# Altium footprint library Mypcb.PcbLib: 144 footprints (part 2 of 9)
Each footprint in its own frame and in the unit in brackets; x right, y up, seen from the top. Pads: shape width x height; smd on the part's side, far side on the other; paste and mask are expansions set on the pad; w line width, h text height; cw(c..) or ccw(c..) is an arc to the next point about the centre after c.
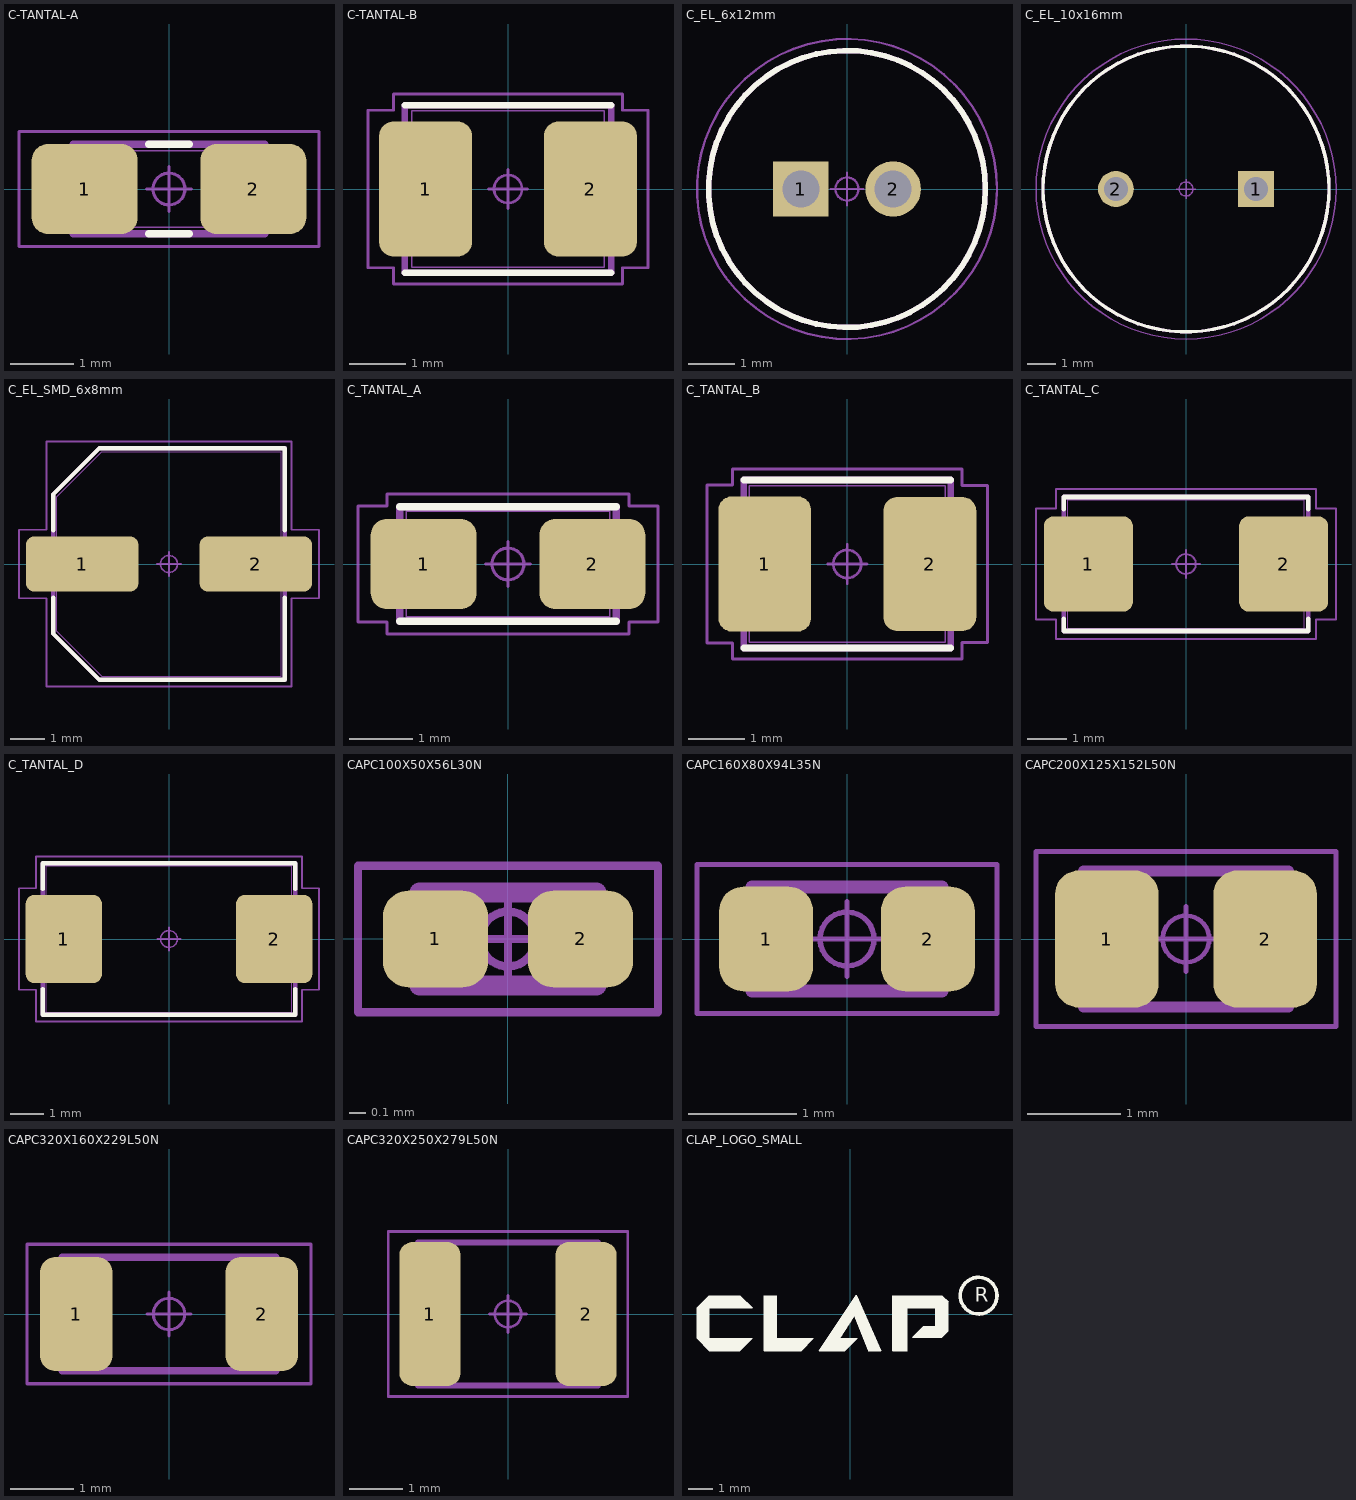
[diagram p1: the footprints below, top view; thin cyan lines are the x and y axes]

## C-TANTAL-A [mm] "Capacitor, Polarized, Molded Body; 3.20 mm L X 1.20 mm W X 1.80 mm H body"
height 1.8
pads (2):
  rrect35% 1.66x1.41 smd: 1(-1.325,0) 2(1.325,0)
Top Overlay:
  lines w0.12: -0.315,-0.7 0.315,-0.7 ; -0.315,0.7 0.315,0.7
Mechanical 11:
  lines w0.12: -1.5,-0.7 -1.5,0.7 1.5,0.7 1.5,-0.7 -1.5,-0.7
Mechanical 12:
  lines w0.025: -1.6,-0.55 -0.75,-0.55 -0.75,0.55 -1.6,0.55 -1.6,-0.55 ; -1.4,-0.6 -1.4,0.6 1.4,0.6 1.4,-0.6 -1.4,-0.6 ; 0.75,-0.55 0.75,0.55 1.6,0.55 1.6,-0.55 0.75,-0.55
Mechanical 15:
  circle w0.05: c0,0 r0.25
  lines w0.05: -0.35,0 0.35,0 ; 0,-0.35 0,0.35 ; -2.355,-0.905 2.355,-0.905 2.355,0.905 -2.355,0.905 -2.355,-0.905
3D body "CAPPM320X120X180L85X110.STEP": height 1.8, standoff 0, extent -1.6,-0.6 1.6,0.6

## C-TANTAL-B [mm] "Capacitor, Polarized, Molded Body; 3.45 mm L X 2.80 mm W X 2.10 mm H body"
height 2.1
pads (2):
  rrect30% 1.66x2.42 smd: 1(-1.475,0) 2(1.475,0)
Top Overlay:
  lines w0.12: -1.85,-1.5 1.85,-1.5 ; -1.85,1.5 1.85,1.5
Mechanical 11:
  lines w0.12: -1.85,-1.5 1.85,-1.5 1.85,1.5 -1.85,1.5 -1.85,-1.5
Mechanical 12:
  lines w0.025: -1.75,-1.1 -1.75,1.1 -0.9,1.1 -0.9,-1.1 -1.75,-1.1 ; -1.725,-1.4 1.725,-1.4 1.725,1.4 -1.725,1.4 -1.725,-1.4 ; 0.9,-1.1 1.75,-1.1 1.75,1.1 0.9,1.1 0.9,-1.1
Mechanical 15:
  circle w0.05: c0,0 r0.25
  lines w0.05: -0.35,0 0.35,0 ; 0,-0.35 0,0.35 ; -2.505,-1.41 -2.05,-1.41 -2.05,-1.7 2.05,-1.7 2.05,-1.41 2.505,-1.41 2.505,1.41 2.05,1.41 2.05,1.7 -2.05,1.7 -2.05,1.41 -2.505,1.41 -2.505,-1.41
3D body "CAPPM350X280X210L85X220.STEP": height 2.1, standoff 0, extent -1.75,-1.4 1.75,1.4

## C_EL_6x12mm [mm] "Capacitor, Polarized, Radial (Electrolytic); 2.00 mm C X 6.00 mm Dia X 12.50 mm H body"
height 12.5
pads (2):
  rect 1.2x1.2 hole 0.8 paste-1.2: 1(-1,0)
  round 1.2 hole 0.8 paste-1.2: 2(1,0)
Top Overlay:
  circle w0.12: c0,0 r3
Mechanical 11:
  circle w0.12: c0,0 r3
Mechanical 12:
  circle w0.025: c-1,0 r0.3
  circle w0.025: c1,0 r0.3
  circle w0.025: c0,0 r3
Mechanical 15:
  circle w0.05: c0,0 r3.25
  circle w0.05: c0,0 r0.25
  lines w0.05: -0.35,0 0.35,0 ; 0,-0.35 0,0.35
3D body "CAPPRD200W50D600H1250.STEP": height 12.51, standoff -2, extent -3,-3 3.01,3

## C_EL_10x16mm [mm] "Capacitor, Polarized, Radial (Electrolytic); 5.00 mm C X 10.20 mm Dia X 16.00 mm H body"
height 16
pads (2):
  rect 1.28x1.28 hole 0.85 paste-1.28: 1(2.5,0)
  round 1.28 hole 0.85 paste-1.28: 2(-2.5,0)
Top Overlay:
  circle w0.12: c0,0 r5.1
Mechanical 11:
  circle w0.12: c0,0 r5.1
Mechanical 12:
  circle w0.025: c0,0 r5.1
  circle w0.025: c2.5,0 r0.325
  circle w0.025: c-2.5,0 r0.325
Mechanical 15:
  circle w0.05: c0,0 r0.25
  circle w0.05: c0,0 r5.35
  lines w0.05: -0.35,0 0.35,0 ; 0,-0.35 0,0.35
3D body "CAPPRD500W60D1020H1600.STEP": height 16.01, standoff -2, extent -5.1,-5.1 5.11,5.1

## C_EL_SMD_6x8mm [mm] "Capacitor, Aluminum Electrolytic; 6.60 mm L X 6.60 mm W X 8.00 mm H body"
height 8
pads (2):
  rrect31% 3.31x1.62 smd: 1(-2.55,0) 2(2.55,0)
Top Overlay:
  lines w0.12: -3.4,-0.99 -3.4,-2.04 -2.04,-3.4 3.4,-3.4 3.4,-0.99 ; -3.4,0.99 -3.4,2.04 -2.04,3.4 3.4,3.4 3.4,0.99
Mechanical 11:
  lines w0.12: -3.4,-2.04 -2.04,-3.4 3.4,-3.4 3.4,3.4 -2.04,3.4 -3.4,2.04 -3.4,-2.04
Mechanical 12:
  lines w0.025: -3.55,-0.325 -0.95,-0.325 -0.95,0.325 -3.55,0.325 -3.55,-0.325 ; -3.3,-1.98 -1.98,-3.3 3.3,-3.3 3.3,3.3 -1.98,3.3 -3.3,1.98 -3.3,-1.98 ; 0.95,-0.325 0.95,0.325 3.55,0.325 3.55,-0.325 0.95,-0.325
Mechanical 15:
  circle w0.05: c0,0 r0.25
  lines w0.05: -0.35,0 0.35,0 ; 0,-0.35 0,0.35 ; -4.405,-1.01 -4.405,1.01 -3.6,1.01 -3.6,3.6 3.6,3.6 3.6,1.01 4.405,1.01 4.405,-1.01 3.6,-1.01 3.6,-3.6 -3.6,-3.6 -3.6,-1.01 -4.405,-1.01
Mechanical 16:
  text ".Designator" at 0,0 h1.2
3D body "CAPAE660X800D710L260X65.STEP": height 8, standoff 0, extent -3.6,-3.3 3.6,3.3

## C_TANTAL_A [mm] "Capacitor, Polarized, Molded Body; 3.20 mm L X 1.65 mm W X 1.80 mm H body"
height 1.8
pads (2):
  rrect35% 1.66x1.42 smd: 1(-1.325,0) 2(1.325,0)
Top Overlay:
  lines w0.12: -1.7,-0.9 1.7,-0.9 ; -1.7,0.9 1.7,0.9
Mechanical 11:
  lines w0.12: -1.7,-0.9 1.7,-0.9 1.7,0.9 -1.7,0.9 -1.7,-0.9
Mechanical 12:
  lines w0.025: -1.6,-0.825 1.6,-0.825 1.6,0.825 -1.6,0.825 -1.6,-0.825 ; -1.6,-0.6 -1.6,0.6 -0.75,0.6 -0.75,-0.6 -1.6,-0.6 ; 0.75,-0.6 1.6,-0.6 1.6,0.6 0.75,0.6 0.75,-0.6
Mechanical 15:
  circle w0.05: c0,0 r0.25
  lines w0.05: -0.35,0 0.35,0 ; 0,-0.35 0,0.35 ; -2.355,-0.91 -1.9,-0.91 -1.9,-1.1 1.9,-1.1 1.9,-0.91 2.355,-0.91 2.355,0.91 1.9,0.91 1.9,1.1 -1.9,1.1 -1.9,0.91 -2.355,0.91 -2.355,-0.91
Mechanical 16:
  text ".Designator" at 0,0 h1.2
3D body "CAPPM320X165X180L85X120.STEP": height 1.8, standoff 0, extent -1.6,-0.825 1.6,0.825

## C_TANTAL_B [mm] "Capacitor, Polarized, Molded Body; 3.50 mm L X 2.80 mm W X 2.10 mm H body"
height 2.1
pads (2):
  rrect30% 1.66x2.42 smd: 1(-1.475,0)
  rrect30% 1.66x2.4 smd: 2(1.475,0)
Top Overlay:
  lines w0.12: -1.85,-1.5 1.85,-1.5 ; -1.85,1.5 1.85,1.5
Mechanical 11:
  lines w0.12: -1.85,-1.5 -1.85,1.5 1.85,1.5 1.85,-1.5 -1.85,-1.5
Mechanical 12:
  lines w0.025: -1.75,-1.4 -1.75,1.4 1.75,1.4 1.75,-1.4 -1.75,-1.4 ; -1.75,-1.1 -0.9,-1.1 -0.9,1.1 -1.75,1.1 -1.75,-1.1 ; 0.9,-0.85 0.9,0.85 1.75,0.85 1.75,-0.85 0.9,-0.85
Mechanical 15:
  circle w0.05: c0,0 r0.25
  lines w0.05: -0.35,0 0.35,0 ; 0,-0.35 0,0.35 ; -2.505,-1.41 -2.505,1.41 -2.05,1.41 -2.05,1.7 2.05,1.7 2.05,1.4 2.505,1.4 2.505,-1.4 2.05,-1.4 2.05,-1.7 -2.05,-1.7 -2.05,-1.41 -2.505,-1.41
Mechanical 16:
  text ".Designator" at 0,0 h1.2
3D body "C_TANTAL_B.STEP": height 2.1, standoff 0, extent -1.75,-1.4 1.75,1.4

## C_TANTAL_C [mm] "Capacitor, Polarized, Molded Body; 6.00 mm L X 3.25 mm W X 2.80 mm H body"
height 2.8
pads (2):
  rrect22% 2.26x2.42 smd: 1(-2.475,0) 2(2.475,0)
Top Overlay:
  lines w0.12: -3.1,-1.39 -3.1,-1.7 3.1,-1.7 3.1,-1.39 ; -3.1,1.39 -3.1,1.7 3.1,1.7 3.1,1.39
Mechanical 11:
  lines w0.12: -3.1,-1.7 3.1,-1.7 3.1,1.7 -3.1,1.7 -3.1,-1.7
Mechanical 12:
  lines w0.025: -3,-1.625 3,-1.625 3,1.625 -3,1.625 -3,-1.625 ; -3,-1.1 -3,1.1 -1.65,1.1 -1.65,-1.1 -3,-1.1 ; 1.65,-1.1 3,-1.1 3,1.1 1.65,1.1 1.65,-1.1
Mechanical 15:
  circle w0.05: c0,0 r0.25
  lines w0.05: -0.35,0 0.35,0 ; 0,-0.35 0,0.35 ; -3.805,-1.41 -3.3,-1.41 -3.3,-1.9 3.3,-1.9 3.3,-1.41 3.805,-1.41 3.805,1.41 3.3,1.41 3.3,1.9 -3.3,1.9 -3.3,1.41 -3.805,1.41 -3.805,-1.41
Mechanical 16:
  text ".Designator" at 0,0 h1.2
3D body "C_TANTAL_C.STEP": height 2.8, standoff 0, extent -3,-1.625 3,1.625

## C_TANTAL_D [mm] "Capacitor, Polarized, Molded Body; 7.30 mm L X 4.35 mm W X 3.10 mm H body"
height 3.1
pads (2):
  rrect22% 2.26x2.62 smd: 1(-3.125,0) 2(3.125,0)
Top Overlay:
  lines w0.12: -3.75,-1.49 -3.75,-2.25 3.75,-2.25 3.75,-1.49 ; -3.75,1.49 -3.75,2.25 3.75,2.25 3.75,1.49
Mechanical 11:
  lines w0.12: -3.75,-2.25 3.75,-2.25 3.75,2.25 -3.75,2.25 -3.75,-2.25
Mechanical 12:
  lines w0.025: -3.65,-2.175 3.65,-2.175 3.65,2.175 -3.65,2.175 -3.65,-2.175 ; -3.65,-1.2 -3.65,1.2 -2.3,1.2 -2.3,-1.2 -3.65,-1.2 ; 2.3,-1.2 3.65,-1.2 3.65,1.2 2.3,1.2 2.3,-1.2
Mechanical 15:
  circle w0.05: c0,0 r0.25
  lines w0.05: -0.35,0 0.35,0 ; 0,-0.35 0,0.35 ; -4.455,-1.51 -3.95,-1.51 -3.95,-2.45 3.95,-2.45 3.95,-1.51 4.455,-1.51 4.455,1.51 3.95,1.51 3.95,2.45 -3.95,2.45 -3.95,1.51 -4.455,1.51 -4.455,-1.51
Mechanical 16:
  text ".Designator" at 0,0 h1.2
3D body "C_TANTAL_D.STEP": height 3.1, standoff 0, extent -3.65,-2.175 3.65,2.175

## CAPC100X50X56L30N [mm] "Capacitor, Chip; 1.00 mm L X 0.50 mm W X 0.56 mm H body"
height 0.56
pads (2):
  rrect52% 0.63x0.58 smd paste-0.63 mask+0: 1(-0.435,0) 2(0.435,0)
Mechanical 13:
  lines w0.12: -0.53,-0.28 -0.53,0.28 0.53,0.28 0.53,-0.28 -0.53,-0.28
Mechanical 15:
  circle w0.05: c0,0 r0.165
  lines w0.05: -0.22,0 0.22,0 ; 0,-0.22 0,0.22 ; -0.9,-0.44 -0.9,0.44 0.9,0.44 0.9,-0.44 -0.9,-0.44
3D body "CAP-0402.stp": height 0.5, standoff 0, extent -0.5,-0.25 0.5,0.25

## CAPC160X80X94L35N [mm] "Capacitor, Chip; 1.60 mm L X 0.80 mm W X 0.94 mm H body"
height 0.94
pads (2):
  rrect51% 0.87x0.97 smd paste-0.97 mask+0: 1(-0.75,0) 2(0.75,0)
Mechanical 13:
  lines w0.12: -0.88,-0.48 0.88,-0.48 0.88,0.48 -0.88,0.48 -0.88,-0.48
Mechanical 15:
  circle w0.05: c0,0 r0.25
  lines w0.05: -0.345,0 0.345,0 ; 0,-0.345 0,0.345 ; -1.39,-0.69 1.39,-0.69 1.39,0.69 -1.39,0.69 -1.39,-0.69
3D body "CAP-0603.stp": height 0.8, standoff 0, extent -0.8,-0.4 0.8,0.4

## CAPC200X125X152L50N [mm] "Capacitor, Chip; 2.00 mm L X 1.25 mm W X 1.52 mm H body"
height 1.52
pads (2):
  rrect45% 1.11x1.47 smd paste-1.47 mask+0: 1(-0.85,0) 2(0.85,0)
Mechanical 13:
  lines w0.12: -1.1,-0.73 1.1,-0.73 1.1,0.73 -1.1,0.73 -1.1,-0.73
Mechanical 15:
  circle w0.05: c0,0 r0.25
  lines w0.05: -0.35,0 0.35,0 ; 0,-0.35 0,0.35 ; -1.61,-0.94 1.61,-0.94 1.61,0.94 -1.61,0.94 -1.61,-0.94
3D body "CAP-0805.stp": height 1.25, standoff 0, extent -1,-0.625 1,0.625

## CAPC320X160X229L50N [mm] "Capacitor, Chip; 3.20 mm L X 1.60 mm W X 2.29 mm H body"
height 2.29
pads (2):
  rrect43% 1.16x1.82 smd paste-1.82 mask+0: 1(-1.475,0) 2(1.475,0)
Mechanical 13:
  lines w0.12: -1.7,-0.9 -1.7,0.9 1.7,0.9 1.7,-0.9 -1.7,-0.9
Mechanical 15:
  circle w0.05: c0,0 r0.25
  lines w0.05: -0.35,0 0.35,0 ; 0,-0.35 0,0.35 ; -2.26,-1.11 -2.26,1.11 2.26,1.11 2.26,-1.11 -2.26,-1.11
3D body "CAP-1206.stp": height 1.6, standoff 0, extent -1.6,-0.8 1.6,0.8

## CAPC320X250X279L50N [mm] "Capacitor, Chip; 3.20 mm L X 2.50 mm W X 2.79 mm H body"
height 2.79
pads (2):
  rrect43% 1.16x2.72 smd paste-2.72 mask+0: 1(-1.475,0) 2(1.475,0)
Mechanical 13:
  lines w0.12: -1.7,-1.35 -1.7,1.35 1.7,1.35 1.7,-1.35 -1.7,-1.35
Mechanical 15:
  circle w0.05: c0,0 r0.25
  lines w0.05: -0.35,0 0.35,0 ; 0,-0.35 0,0.35 ; -2.26,-1.56 -2.26,1.56 2.26,1.56 2.26,-1.56 -2.26,-1.56
3D body "CAP-1210.stp": height 2.5, standoff 0, extent -1.6,-1.25 1.6,1.25

## CLAP_LOGO_SMALL [mm]
Top Overlay:
  circle w0.15: c5.25,0.75 r0.75
  region: 1.25,-1.5 0.817,-0.525 0.248,0.755 -0.892,-0.95 -1.26,-1.5 -0.216,-1.5 0.284,-1 -0.418,-1 0.172,-0.068 0.765,-1.5
  region: 1.74,-1.5 1.74,0.75 3.75,0.75 4,0.5 4,-0.691 3.75,-0.941 2.559,-0.941 3,-0.5 3.5,-0.5 3.5,0.25 2.325,0.25 2.325,-1.5
  region: -5.75,0.75 -4.5,0.75 -4,0.25 -5.75,0.25 -5.75,-1 -4,-1 -4.5,-1.5 -5.75,-1.5 -6.25,-1 -6.25,0.25
  region: -3.5,0.75 -3,0.75 -3,-1 -1.5,-1 -2,-1.5 -3.5,-1.5
  lines w0.025: 0.177,-0.075 -0.418,-1 0.284,-1 -0.216,-1.5 -1.26,-1.5 0.248,0.755 1.25,-1.5 0.75,-1.5 0.181,-0.078 ; -6.25,-1 -5.75,-1.5 -4.5,-1.5 -4,-1 -5.75,-1 -5.75,0.25 -4,0.25 -4.5,0.75 -5.75,0.75 -6.25,0.25 -6.25,-1 ; -3.5,-1.5 -2,-1.5 -1.5,-1 -3,-1 -3,0.75 -3.5,0.75 -3.5,-1.5 ; 1.74,-1.5 2.325,-1.5 2.325,0.25 3.5,0.25 3.5,-0.5 3,-0.5 2.559,-0.941 3.75,-0.941 4,-0.691 4,0.5 3.75,0.75 1.74,0.75 1.74,-1.5
  text "R" at 5.1,0.5 h0.6

## CR123A [mm] "battery with terminals"